# EAGLE library part NRF24L01+REFDESIGN (library nRF24L01+RefDesign)
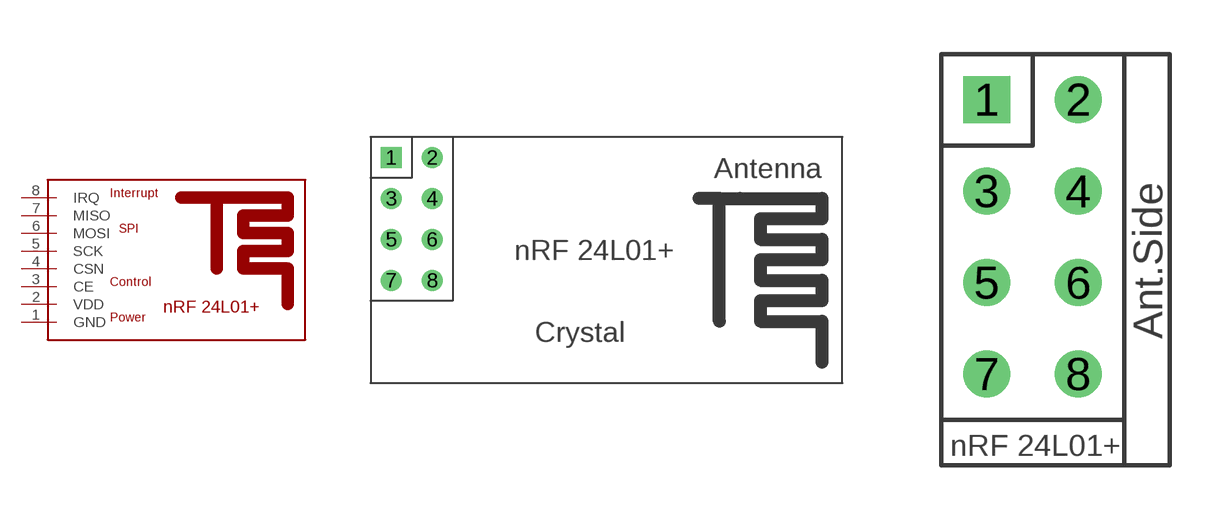
[diagram p0: symbol with the pads of NRF24L01+REFDESIGN; footprints NRF24L01+REFDESIGN, NRF24L01+REFDESIGN-MINI]

Designator prefix -

## NRF24L01+REFDESIGN  [NRF24L01+REFDESIGN]
1  GND
2  VDD
3  CE
4  CSN
5  SCK
6  MOSI
7  MISO
8  IRQ

## NRF24L01+REFDESIGNMINI  [NRF24L01+REFDESIGN-MINI]
Pads as for NRF24L01+REFDESIGN

## Footprint NRF24L01+REFDESIGN (pad centres in mm)
drill 0.8 square: 1 -5.08,5.08
drill 0.8: 2 -2.54,5.08; 3 -5.08,2.54; 4 -2.54,2.54; 5 -5.08,0; 6 -2.54,0; 7 -5.08,-2.54; 8 -2.54,-2.54

## Footprint NRF24L01+REFDESIGN-MINI (pad centres in mm)
drill 0.8 square: 1 -1.27,3.81
drill 0.8: 2 1.27,3.81; 3 -1.27,1.27; 4 1.27,1.27; 5 -1.27,-1.27; 6 1.27,-1.27; 7 -1.27,-3.81; 8 1.27,-3.81